# Altium schematic symbol library RF-Couplers.SchLib: 1 symbol
Pins are listed as number, name and electrical type; pins without a type are passive.

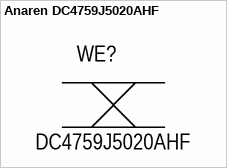
[diagram p0: symbol Anaren DC4759J5020AHF]

## Anaren DC4759J5020AHF
designator WE?, comment DC4759J5020AHF
Ultra Low Profile 0805 20dB Directional Coupler
footprint DC4759J5020AHF
pins: 1, 2, 3 hidden to GND, 4 hidden to GND, 5, 6